# Altium footprint library 22284110.PcbLib: 1 footprints
Each footprint in its own frame and in the unit in brackets; x right, y up, seen from the top. Pads: shape width x height; smd on the part's side, far side on the other; paste and mask are expansions set on the pad; w line width, h text height; cw(c..) or ccw(c..) is an arc to the next point about the centre after c.
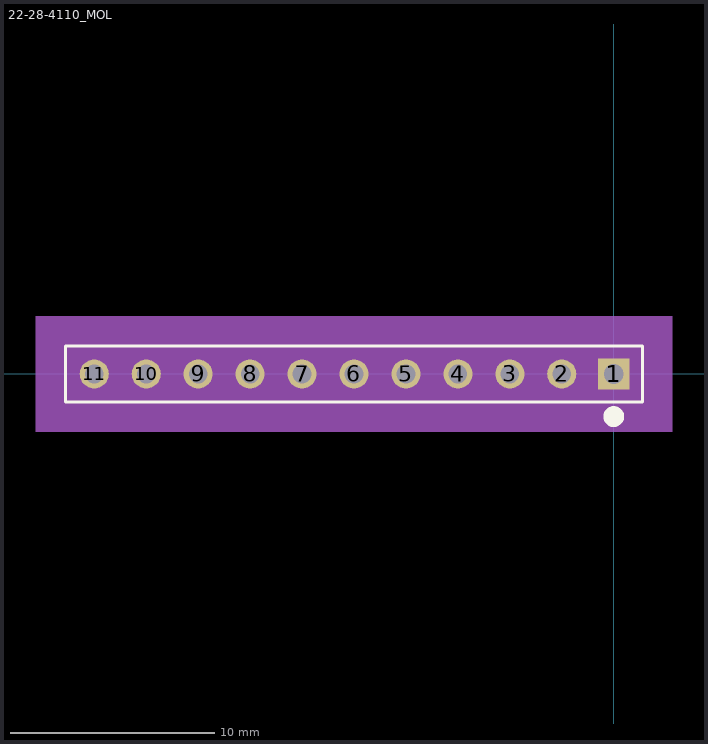
[diagram p0: the footprint, top view; thin cyan lines are the x and y axes]

## 22-28-4110_MOL [mil]
pads (11):
  rect 60x60 hole 38 mask+0: 1(0,0)
  round 56 hole 36 mask+0: 2(-100,0) 3(-200,0) 4(-300,0) 5(-400,0) 6(-500,0) 7(-600,0) 8(-700,0) 9(-800,0) 10(-900,0) 11(-1000,0)
Top Overlay:
  circle w20: c0,-82 r10
  lines w6: -1055,-54 -1055,54 55,54 55,-54 -1055,-54
Mechanical 5:
  region: 112.5,-111.5 -1112.5,-111.5 -1112.5,111.5 112.5,111.5
Mechanical 13:
  circle w0: c0,-34 r10
  lines w1: -1050,-49 -1050,49 50,49 50,-49 -1050,-49
Mechanical 15:
  region: 60,59 -1060,59 -1060,-59 60,-59
  lines w6: -1060,-59 60,-59 60,59 -1060,59 -1060,-59
3D body "22-28-4110_MOL.step": height 450, standoff -200, extent -1050,-50 50,50